# Altium footprint library Tag105 Rev20.PcbLib: 25 footprints (part 1 of 2)
Each footprint in its own frame and in the unit in brackets; x right, y up, seen from the top. Pads: shape width x height; smd on the part's side, far side on the other; paste and mask are expansions set on the pad; w line width, h text height; cw(c..) or ccw(c..) is an arc to the next point about the centre after c.
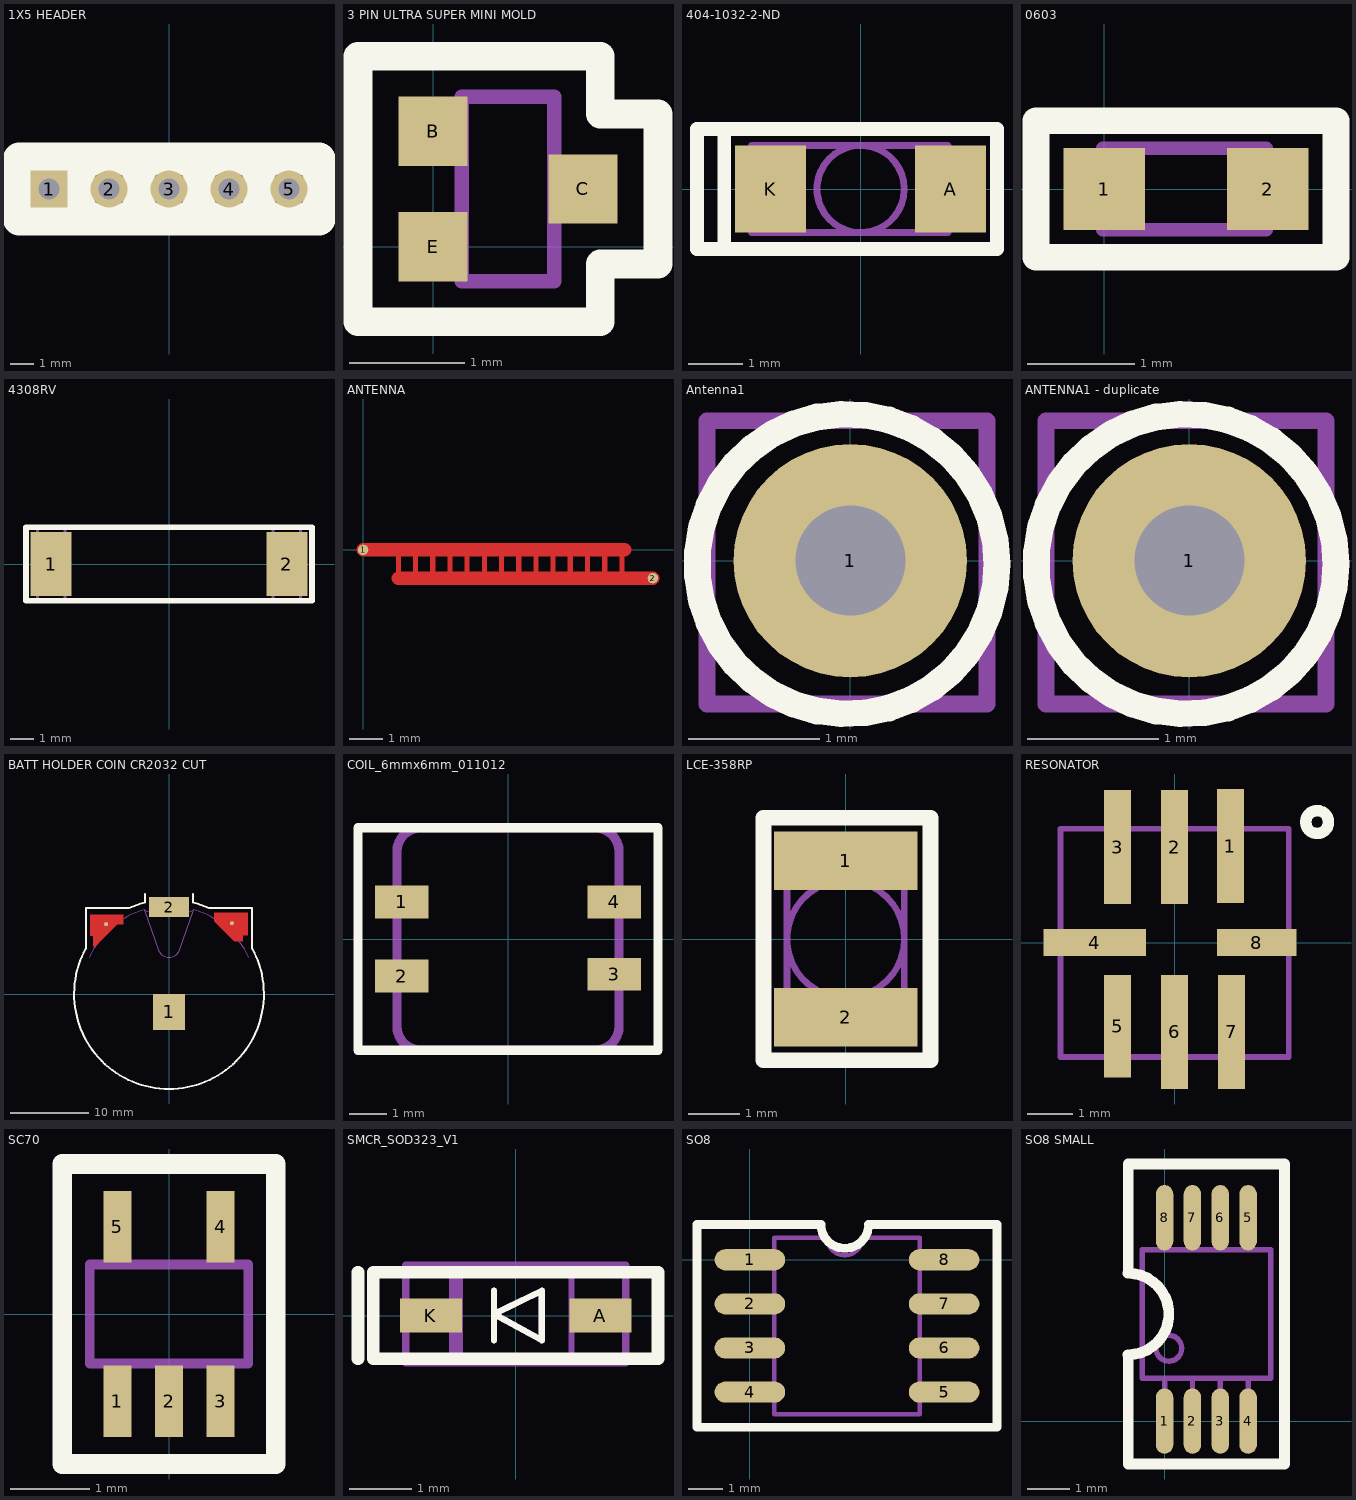
[diagram p0: the footprints below, top view; thin cyan lines are the x and y axes]

## 1X5 HEADER [mil]
pads (5):
  rect 62x62 hole 35: 1(-200,0)
  round 62 hole 35: 2(-100,0) 3(0,0) 4(100,0) 5(200,0)
Top Overlay:
  lines w55: -150,-50 -150,50 ; -50,-45 -50,50 ; 50,-50 50,50 ; 150,-50 150,50 ; -250,-50 250,-50 250,50 -250,50 -250,-50
Mechanical 1:
  lines w4.92: -240,-40 240,-40 240,40 -240,40 -240,-40
Mechanical 8:
  text ".Designator" at 12,-47 h19.68

## 3 PIN ULTRA SUPER MINI MOLD [mm]
pads (3):
  rect 0.6x0.6 smd: B(0,1) C(1.3,0.5) E(0,0)
Top Overlay:
  lines w0.25: -0.65,-0.65 1.45,-0.65 1.45,-0.15 1.95,-0.15 1.95,1.15 1.45,1.15 1.45,1.65 -0.65,1.65 -0.65,1.6 -0.65,-0.65
Mechanical 1:
  lines w0.125: 0.25,-0.15 -0.15,-0.15 -0.15,0.15 0.25,0.15 ; 0.25,0.85 -0.15,0.85 -0.15,1.15 0.25,1.15 ; 1.05,0.35 1.45,0.35 1.45,0.65 1.05,0.65 ; 0.25,-0.3 0.25,1.3 1.05,1.3 1.05,-0.3 0.25,-0.3
Mechanical 8:
  text ".Designator" at -0.686,0.229 h0.5

## 404-1032-2-ND [mm]
pads (2):
  rect 1.3x1.6 smd: A(1.65,0) K(-1.65,0)
Top Overlay:
  lines w0.25: -2.5,-1.1 -3,-1.1 -3,1.1 -2.5,1.1 ; -2.5,-1.1 2.5,-1.1 2.5,1.1 -2.5,1.1 ; -2.5,-1.1 -2.5,1.1
Mechanical 1:
  circle w0.127: c0,0 r0.8
  lines w0.127: 0,0.8 1.6,0.8 ; -1.6,-0.8 1.6,-0.8 1.6,0.8 ; -1.6,-0.8 -1.6,0.8 ; -1.6,-0.8 -2,-0.8 -2,0.8 -1.6,0.8 ; -1.6,0.8 1.6,0.8
Mechanical 8:
  text ".Designator" at -2.362,-0.258 h0.5

## 0603 [mil] "High Density 0603"
pads (2):
  rect 30x30 smd: 1(0,0) 2(60,0)
Top Overlay:
  lines w9.84: -25,-25 85,-25 85,25 -25,25 -25,-25
Mechanical 1:
  lines w5: -0.53,-15 -0.53,15 59.47,15 59.47,-15 -0.53,-15
Mechanical 8:
  text ".Designator" at -15,-15 h19.68

## 4308RV [mil] "RFID Transponder"
pads (2):
  rect 70x110 smd: 1(-202,0) 2(202,0)
Top Overlay:
  lines w9.84: -245,-63 -245,63 245,63 245,-63 -245,-63
Mechanical 1:
  lines w5: -178,-63 -178,63 ; 178.35,-63 178.35,63 ; -225,-63 -225,63 225,63 225,-63 -225,-63
Mechanical 8:
  text ".Designator" at -11,76 h19.68

## ANTENNA [mil]
pads (2):
  round 12 smd: 1(0,0) 2(337,-33)
Top Layer:
  lines w6: 41,-33 41,0 ; 61,-33 61,0 ; 81,-33 81,0 ; 101,-33 101,0 ; 121,-33 121,0 ; 141,-33 141,0 ; 161,-33 161,0 ; 181,-33 181,0 ; 201,-33 201,0 ; 221,-33 221,0 ; 241,-33 241,0 ; 261,-33 261,0 ; 281,-33 281,0 ; 301,-33 301,0
  lines w16: 0,0 41,0 61,0 81,0 101,0 121,0 141,0 161,0 181,0 201,0 221,0 241,0 261,0 281,0 301,0 304,0 ; 41,-33 61,-33 81,-33 101,-33 121,-33 141,-33 161,-33 181,-33 201,-33 221,-33 241,-33 261,-33 281,-33 301,-33 337,-33

## Antenna1 [mil]
pads (1):
  round 70 hole 33: 1(0,0)
Top Overlay:
  circle w8: c-1,-1 r45
Mechanical 1:
  lines w5: -43,-43 -43,42 41,42 41,-43 -43,-43
Mechanical 8:
  text ".Designator" at -10,13 h19.68
  text ".Designator" at 59,16 h19.68

## ANTENNA1 - duplicate [mil]
pads (1):
  round 70 hole 33: 1(0,0)
Top Overlay:
  circle w8: c-1,-1 r45
Mechanical 1:
  lines w5: -43,-43 41,-43 41,42 -43,42 -43,-43
Mechanical 8:
  text ".Designator" at -9,12 h19.68
  text ".Designator" at 60,13 h19.68

## BATT HOLDER COIN CR2032 CUT [mil]
pads (4):
  rect 160x180 smd: 1(0,-88.88)
  round 20 smd: 2(-315,350) 2(315,355)
  rect 200x100 smd: 2(0,435)
Top Layer:
  region: -394,397 -229,397 -229,350 -260,350 -370,240 -378,240 -378,291 -394,291
  region: 395,407 395,294 368,294 368,265 327,265 226,366 226,407
Top Overlay:
  lines w9.84: -416.04,229.2 -416.04,430 ; -416.04,430.69 -200.32,430.69 ; -120.51,459.46 -120.51,502.5 ; 120.51,459.46 120.51,502.5 ; 200.32,430.69 416.04,430.69 ; 416.04,229.2 416.04,430
  lines w10: -416.05,229.2 ccw(c0,0) 0,-475 ccw(c0,0) 416.05,229.2 ; -200.32,430.69 cw(c0,0) -120.51,459.46 ; 120.51,459.46 cw(c0,0) 200.32,430.69
Top Paste:
  region: 395,407 395,294 368,294 368,265 327,265 226,366 226,407
  region: -394,397 -229,397 -229,350 -260,350 -370,240 -378,240 -378,291 -394,291
Top Solder:
  region: 395,407 395,294 368,294 368,265 327,265 226,366 226,407
  region: -394,397 -229,397 -229,350 -260,350 -370,240 -378,240 -378,291 -394,291
Mechanical 1:
  lines w4.92: -400.02,185.01 cw(c0,0) -125.03,422.62 ; -335,285 -365,285 -365,385 -315,385 -265,385 -265,352.5 ; -75,405 -75,457.5 0,457.5 75,457.5 75,405 ; 265,352.5 265,385 315,385 365,385 365,285 335,285 ; 400.02,185.01 ccw(c0,0) 125.03,422.62 ; -125.04,422.62 ccw(c-0.39,711.91) 0,396.91 ccw(c0.39,711.91) 125.03,422.62 ; -125.03,422.62 -50.16,214.91 ccw(c0,242.01) 0,185 ccw(c0,242.01) 50.16,214.91 125.03,422.62
Mechanical 8:
  text ".Designator" at 13.54,265.12 h19.68

## COIL_6mmx6mm_011012 [mil] "SMT"
height 7086.61
pads (4):
  rect 57x35 smd: 1(-113,39.5) 2(-113,-39.5) 3(113,-37.5) 4(113,39.5)
Top Overlay:
  lines w10: -159.45,-118.11 -159.45,118.11 159.45,118.11 159.45,-118.11 -159.45,-118.11
Mechanical 1:
  lines w10: -118,-93 ccw(c-93,-93) -93,-118 93,-118 ccw(c93,-93) 118,-93 118,93 ccw(c93,93) 93,118 -93,118 ccw(c-93,93) -118,93 -118,-93
Mechanical 8:
  text ".Comment" at -177.17,-173.23 h40
  text ".Designator" at -30,50 h40

## LCE-358RP [mil]
pads (2):
  rect 110x45 smd: 1(0,60) 2(0,-60)
Top Overlay:
  lines w12: -63,-93 65,-93 65,93 -63,93 -63,-93
Mechanical 1:
  circle w5: c0,0 r45
  lines w5: -45,-65 45,-65 45,65 -45,65 -45,-65
Mechanical 8:
  text ".Designator" at 25,-80 h19.68

## RESONATOR [mm]
pads (8):
  rect 0.6x2.54 smd: 1(1.245,2.159) 2(0,2.134) 3(-1.27,2.134) 6(0,-1.983) 7(1.27,-1.983)
  rect 2.286x0.6 smd: 4(-1.776,0.008)
  rect 0.6x2.286 smd: 5(-1.27,-1.856)
  rect 1.778x0.6 smd: 8(1.831,0.008)
Top Overlay:
  circle w0.254: c3.175,2.692 r0.254
Mechanical 1:
  lines w0.125: -2.54,-2.54 2.54,-2.54 2.54,0 2.54,2.54 -2.54,2.54 -2.54,-2.54
Mechanical 8:
  text ".Designator" at -0.406,1.524 h0.5

## SC70 [mm]
pads (5):
  rect 0.35x0.9 smd mask+0.051: 1(-0.65,-1.1) 2(0,-1.1) 3(0.65,-1.1) 4(0.65,1.1) 5(-0.65,1.1)
Top Overlay:
  lines w0.25: -1.346,-1.892 -1.346,0 -1.346,1.892 0,1.892 1.346,1.892 1.346,0 1.346,-1.892 0,-1.892 -1.346,-1.892
Mechanical 1:
  lines w0.125: -0.65,-1.1 -0.65,-0.625 ; -0.65,0.625 -0.65,1.1 ; 0,-1.1 0,-0.625 ; 0,0.625 -1,0.625 ; 0.65,-1.1 0.65,-0.625 ; 0.65,0.625 0.65,1.1 ; 1,0 1,-0.625 ; -1,0.625 1,0.625 1,-0.625 ; -1,0.625 -1,-0.625 1,-0.625
Mechanical 8:
  text ".Designator" at 0.152,-1.88 h0.5

## SMCR_SOD323_V1 [mm]
pads (2):
  rect 1x0.55 smd: A(1.37,0) K(-1.37,0)
Top Overlay:
  lines w0.102: -0.35,-0.4 -0.35,0.4 ; 0.422,-0.4 0.422,0.397 ; 0.425,-0.4 -0.35,0.025 0.425,0.4
  lines w0.203: -2.55,-0.7 -2.55,0.7 ; -2.3,-0.7 2.3,-0.7 2.3,0.7 -2.3,0.7 -2.3,-0.7
Mechanical 1:
  lines w0.102: -0.925,-0.2 -1.375,-0.2 -1.375,0.2 -0.925,0.2 ; -0.35,-0.4 -0.35,0.4 ; 0.422,-0.4 0.422,0.397 ; 0.425,-0.4 -0.35,0.025 0.425,0.4 ; 0.925,-0.2 1.375,-0.2 1.375,0.2 0.925,0.2 ; -0.9,-0.675 -0.9,0.675 0.9,0.675 0.9,-0.675 -0.9,-0.675
  lines w0.127: -1.016,-0.762 -1.016,0.813 ; -1.778,-0.762 1.778,-0.762 1.778,0.813 -1.778,0.813 -1.778,-0.762
Mechanical 8:
  text ".Designator" at -1.905,1.143 h0.5

## SO8 [mil]
pads (8):
  oval 80x24 smd: 1(0,0) 2(0,-50) 3(0,-100) 4(0,-150) 5(220,-150) 6(220,-100) 7(220,-50) 8(220,0)
Top Overlay:
  lines w9.84: 80.46,40 -60,40 -60,-190 280,-190 280,40 134.54,40
  lines w10: 80.46,40 ccw(c107.5,40) 134.54,40
Mechanical 1:
  lines w4.92: 27.5,-155 0,-155 0,-145 27.5,-145 ; 27.5,-105 0,-105 0,-95 27.5,-95 ; 27.5,-55 0,-55 0,-45 27.5,-45 ; 27.5,-5 0,-5 0,5 27.5,5 ; 192.5,-155 220,-155 220,-145 192.5,-145 ; 192.5,-105 220,-105 220,-95 192.5,-95 ; 192.5,-55 220,-55 220,-45 192.5,-45 ; 192.5,-5 220,-5 220,5 192.5,5 ; 27.5,-175 27.5,25 87.5,25 ccw(c107.5,25) 127.5,25 192.5,25 192.5,-175 27.5,-175
Mechanical 8:
  text ".Designator" at 153,-7 h19.68

## SO8 SMALL [mil]
pads (8):
  oval 16x60 smd: 1(0,0) 2(25.59,0) 3(51.18,0) 4(76.77,0) 5(76.77,186.85) 6(51.18,186.85) 7(25.59,186.85) 8(0,186.85)
Top Overlay:
  lines w9.84: -33.46,61.02 -33.46,-39.37 1.97,-39.37 110.24,-39.37 110.24,153.54 110.24,236.22 74.8,236.22 -33.46,236.22 -33.46,135.83
  lines w10: -33.46,61.02 ccw(c-33.46,98.43) -33.46,135.83
Mechanical 1:
  circle w4.92: c3.94,66.93 r11.81
  lines w4.92: 0,0 0,39.37 ; 0,157.48 0,196.85 ; 25.59,0 25.59,39.37 ; 25.59,157.48 25.59,196.85 ; 51.18,0 51.18,39.37 ; 51.18,157.48 51.18,196.85 ; 76.77,0 76.77,39.37 ; 76.77,157.48 76.77,196.85 ; 97.44,98.43 97.44,157.48 ; 97.44,157.48 97.44,39.37 -20.67,39.37 -20.67,157.48 97.44,157.48
Mechanical 8:
  text ".Designator" at 79,77 h19.68